# Altium schematic symbol library E-component.SchLib: 51 symbols
Pins are listed as number, name and electrical type; pins without a type are passive.

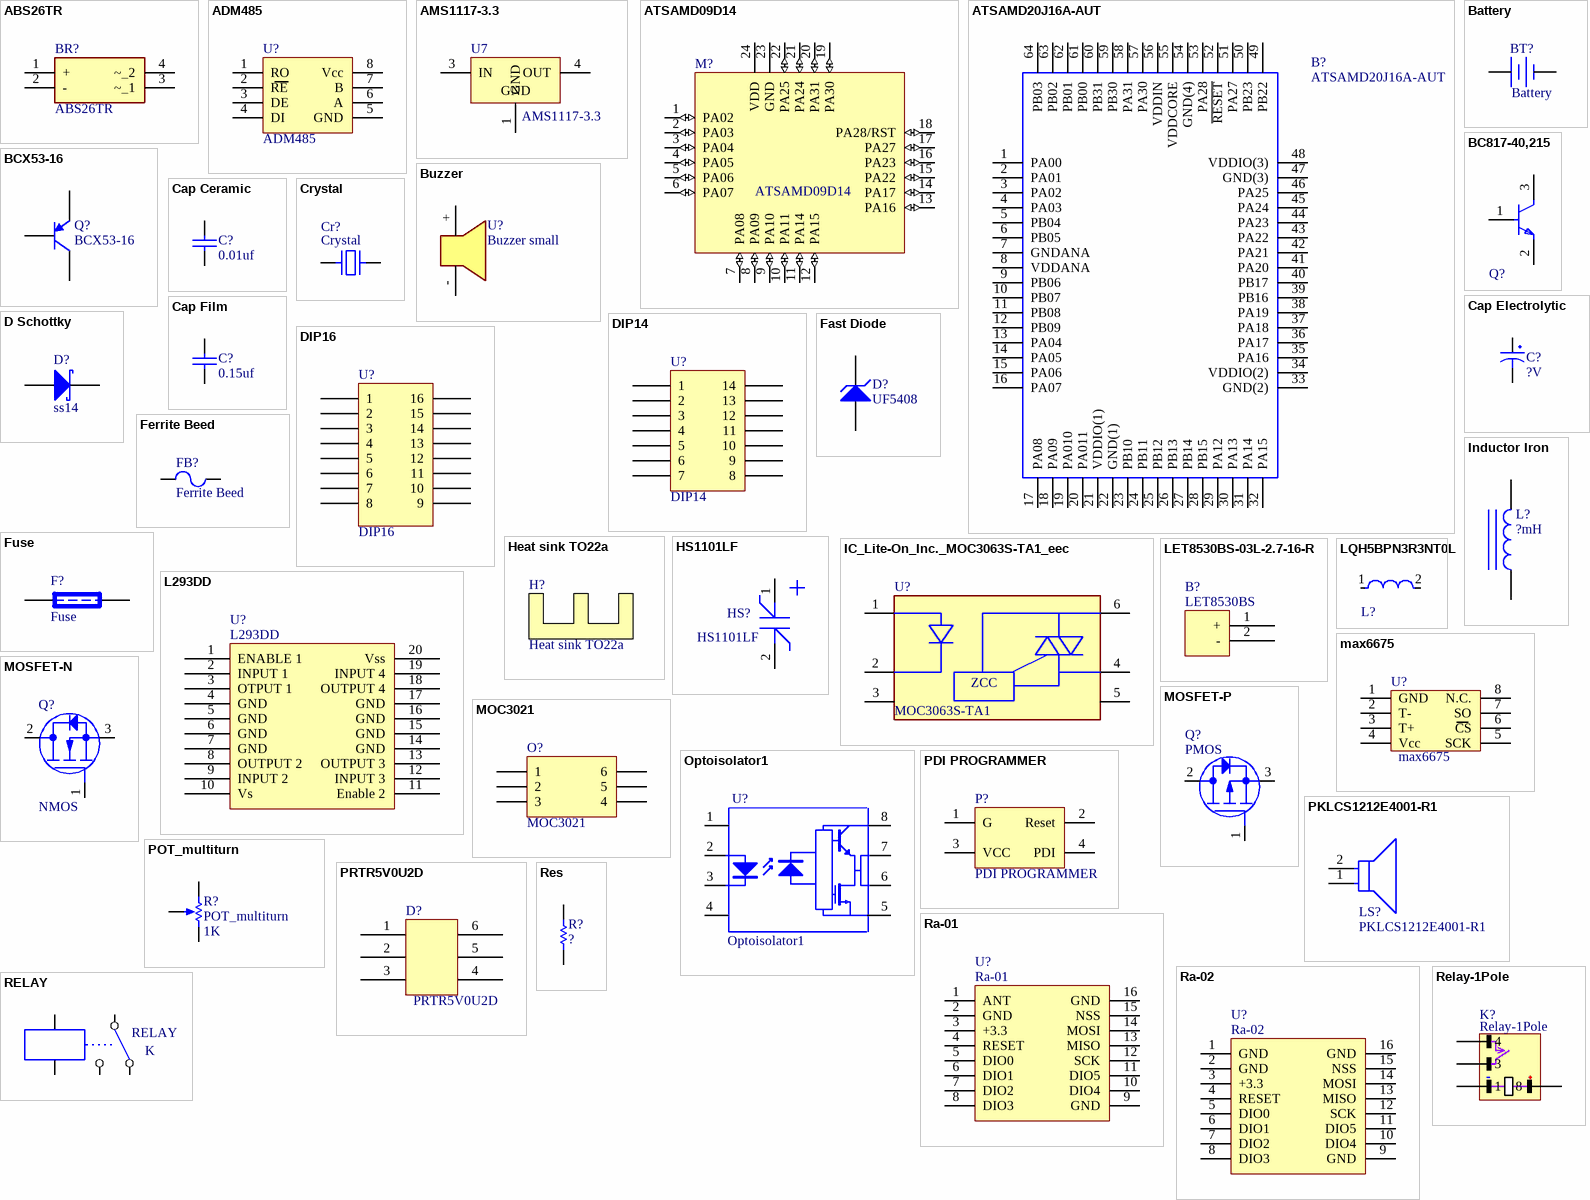
[diagram p0: symbols ABS26TR to Res]

## ABS26TR
designator BR?
Bridge Rectifier; Manufacturer_Name: SMC Diode Solutions; Datasheet Link: http://www.smc-diodes.com/propdf/ABS22%20THRU%20ABS210%20N1924%20REV.A.pdf; Height: 1.7mm; Manufacturer_Part_Number: ABS26TR; Arrow Part Number: ABS26TR
footprint TSOP400P640X150-4M (TSOP, 4-Leads, Body 5.05x4.40mm, Pitch 4.00mm, IPC Low Density)
footprint TSOP400P640X150-4N (TSOP, 4-Leads, Body 5.05x4.40mm, Pitch 4.00mm, IPC Medium Density)
pins: 1 +, 2 -, 3 ~_1, 4 ~_2

## ADM485
designator U?
pins: 1 RO, 2 RE, 3 DE, 4 DI, 5 GND, 6 A, 7 B, 8 Vcc

## AMS1117-3.3
designator U7
800mA Low-Dropout Linear Regulator, 3-pin TO-252; PartNumber: LM1117DT-3.3; Manufacturer: National Semiconductor; PackageTopMarking: NSUZXYTT*LM1117*DT-3.3; PowerWise: N; CompType: LDO IC; Published: 4-Dec-2008; DatasheetVersion: Apr-2006; PackageVersion: revD, Feb-2009; PackageReference: TD03B; Publisher: Altium Limited; PackageDescription: TO252, Molded, Jedec, 6.8 x 6.10 x 2.30mm Body, 3 Lead, 2.28mm Pitch, Surface Mount; Supplier 1: http://javanelec.com/; Supplier Part Number 1: 9486275; Supplier 2: Farnell; Supplier Part Number 2: 1523829; RoHS: N; PinCount: 3; Code_JEDEC: TO-252-AA; ComponentLink1Description: LM1117 Datasheet; ComponentLink1URL: http://www.national.com/ds/LM/LM1117.pdf; ComponentLink2Description: LM1117 Web Page; ComponentLink2URL: http://www.national.com/pf/LM/LM1117.html; ComponentLink3Description: TD03B Package Page; ComponentLink3URL: http://www.national.com/packaging/folders/td03b.html
footprint SOT223-TI (TI's Suggested Pad Layout)
pins: 1 GND (power), 3 IN (power), 4 OUT (power)

## ATSAMD09D14
designator M?
footprint QFN50P400X400X80_HS-25N (QFN, 24-Leads, Body 4.00x4.00mm, Pitch 0.50mm, Thermal Pad 2.60x2.60mm, IPC Medium Density)
pins: 1 PA02 (io), 2 PA03 (io), 3 PA04 (io), 4 PA05 (io), 5 PA06 (io), 6 PA07 (io), 7 PA08 (io), 8 PA09 (io), 9 PA10 (io), 10 PA11 (io), 11 PA14 (io), 12 PA15 (io), 13 PA16 (io), 14 PA17 (io), 15 PA22 (io), 16 PA23 (io), 17 PA27 (io), 18 PA28/RST (io), 19 PA30 (io), 20 PA31 (io), 21 PA24 (io), 22 PA25 (io), 23 GND (power), 24 VDD (power), 25 TPAD (power) hidden

## ATSAMD20J16A-AUT
designator B?
ARM Microcontrollers - MCU Cortex-M0+ 64KB FLASH 8KB SRAM; Manufacturer_Name: Microchip; Geometry.Height: 1.2mm; Supplier_Name: RS; RS Part Number: *; Manufacturer_Part_Number: ATSAMD20J16A-AUT; Allied_Number: *; Other Part Number: *; Datasheet Link: http://www.atmel.com/Images/Atmel-42129-SAM-D20_Datasheet.pdf; 3D Package: *
footprint QFP50P1200X1200X120-64N
pins: 1 PA00, 2 PA01, 3 PA02, 4 PA03, 5 PB04, 6 PB05, 7 GNDANA, 8 VDDANA, 9 PB06, 10 PB07, 11 PB08, 12 PB09, 13 PA04, 14 PA05, 15 PA06, 16 PA07, 17 PA08, 18 PA09, 19 PA010, 20 PA011, 21 VDDIO(1), 22 GND(1), 23 PB10, 24 PB11, 25 PB12, 26 PB13, 27 PB14, 28 PB15, 29 PA12, 30 PA13, 31 PA14, 32 PA15, 33 GND(2), 34 VDDIO(2), 35 PA16, 36 PA17, 37 PA18, 38 PA19, 39 PB16, 40 PB17, 41 PA20, 42 PA21, 43 PA22, 44 PA23, 45 PA24, 46 PA25, 47 GND(3), 48 VDDIO(3), 49 PB22, 50 PB23, 51 PA27, 52 ~{RESET}, 53 PA28, 54 GND(4), 55 VDDCORE, 56 VDDIN, 57 PA30, 58 PA31, 59 PB30, 60 PB31, 61 PB00, 62 PB01, 63 PB02, 64 PB03

## Battery
designator BT?
Multicell Battery; Published: 24-Mar-1999; LatestRevisionDate: 17-Jul-2002; LatestRevisionNote: Re-released for DXP Platform.; PackageReference: BAT-2; Publisher: Altium Limited; PackageDescription: Battery; 2 Leads
footprint BATTERY_3.6_NIMH
pins: 1 -, 2 +

## BC817-40,215
designator Q?  (value not drawn)
footprint Nexperia_SOT23_IPC_A
footprint Nexperia_SOT23_IPC_B
footprint Nexperia_SOT23_IPC_C
footprint Nexperia_SOT23_MFG
pins: 1 B, 2 E, 3 C

## BCX53-16
designator Q?
PNP Bipolar Transistor
footprint SOT89R-150P350X160-3N (SOT89, 3-Leads, Body 4.50x2.50mm, Pitch 1.50mm, Lead Span 3.5mm - Reverse Pinning, IPC Medium Density)
pins: 1 C, 2 B, 3 E

## Buzzer
designator U?, comment Buzzer small
5-12v small buzzer (12mm)
footprint Buzzer
pins: + 1 (power), - 2 (power)

## Cap Ceramic
designator C?, comment 0.01uf
Capacitor; Published: 8-Jun-2000; LatestRevisionDate: 17-Jul-2002; LatestRevisionNote: Re-released for DXP Platform.; PackageReference: RAD-0.3; Publisher: Altium Limited; PackageDescription: Radial Cap, Thru-Hole; 2 Leads; 0.3 in Pin Spacing; Value: 0.01uf
footprint Cap_ceramic
simulation model CAP (Capacitor)
signal-integrity model Cap
footprint CAP_0805
footprint CAP_0603 [IPC]
pins: 1, 2

## Cap Electrolytic
designator C?, comment ?V
Electrolytic Capacitor (Radial); voltage: Capacitor; 2 Leads; Value: ?V
simulation model CAP (Capacitor)
signal-integrity model Cap
footprint CAPPR7.5-18x35.5 (Capacitor, Electrolytic, Radial; Body 18 x 35.5 mm (Dia.xH typ); Pin Spacing 7.5 mm (typ))
footprint CAPPRS10-30x35 (Capacitor, Electrolytic, Radial, Snap-In Pins; Body 30 x 35 mm (Dia.xH typ); Pin Spacing 10 mm (typ))
footprint CAPPR5-8x11.5 (Capacitor, Electrolytic, Radial; Body 8 x 11.5 mm (Dia.xH typ); Pin Spacing 5 mm (typ))
footprint CAPPR5-5x11 (Capacitor, Electrolytic, Radial; Body 5 x 11 mm (Dia.xH typ); Pin Spacing 5 mm (typ))
footprint CAPPR8.5-SMD
footprint CAPAE8983X100N (Aluminum Electrolytic Capacitor, Body 8.30x8.30x10.00mm, IPC Medium Density)
footprint CAPAE109103X100N (Aluminum Electrolytic Capacitor, Body 10.30x10.30x10.00mm, IPC Medium Density)
footprint CAPAE7266X57N (Aluminum Electrolytic Capacitor, Body 6.60x6.60x5.70mm, IPC Medium Density)
pins: 1, 2

## Cap Film
designator C?, comment 0.15uf
Polypropylene Film Capacitor; Published: 8-Jun-2000; LatestRevisionDate: 17-Jul-2002; LatestRevisionNote: Re-released for DXP Platform.; PackageReference: RAD-0.3; Publisher: Altium Limited; PackageDescription: Radial Cap, Thru-Hole; 2 Leads; 0.3 in Pin Spacing; Value: 0.15uf
footprint WIMA MKS (Diode, Axial; Body 9.5 x 5.6 mm (LxDia. max), Lead Dia. 1.32 mm (max))
simulation model CAP (Capacitor)
signal-integrity model Cap
footprint WIMA MKS - mini (Diode, Axial; Body 9.5 x 5.6 mm (LxDia. max), Lead Dia. 1.32 mm (max))
pins: 1, 2

## Crystal
designator Cr?
footprint Crystal MC-405
pins: 1, 2

## D Schottky
designator D?, comment ss14
Schottky Diode; Published: 8-Jun-2000; LatestRevisionDate: 17-Jul-2002; LatestRevisionNote: Re-released for DXP Platform.; PackageReference: SMB; Publisher: Altium Limited; PackageDescription: DO-214-AA/SMB; 2 C-Bend Leads; Body 5.3 x 3.6 mm, inc. leads (LxW); Code_JEDEC: DO-214-AA
footprint SMB (DO-214-AA/SMB; 2 C-Bend Leads; Body 5.3 x 3.6 mm, inc. leads (LxW))
footprint SMA (SMA size diode)
footprint SODFL500X120-2N(DO-221AC ,SMA-FL) (SODFL, 2-Leads, Body 2.60x5.00mm, IPC Medium Density)
footprint SMC(DO-214AB)-Diodes (Diodes Incorporated's Suggested Pad Layout)
footprint LED 5mm
pins: 1 A, 2 K

## DIP14
designator U?
DIP 14
footprint DIP14
pins: 1, 2, 3, 4, 5, 6, 7, 8, 9, 10, 11, 12, 13, 14

## DIP16
designator U?
DIP 16
footprint DIP16 (DIP, 16-Leads, Row Spacing 7.62mm, Pitch 2.54mm, Body 19.6x6.3mm)
pins: 1, 2, 3, 4, 5, 6, 7, 8, 9, 10, 11, 12, 13, 14, 15, 16

## Fast Diode
designator D?, comment UF5408
Diode; Published: 8-Jun-2000; LatestRevisionDate: 17-Jul-2002; LatestRevisionNote: Re-released for DXP Platform.; PackageReference: DIODE-0.7; Publisher: Altium Limited; PackageDescription: Diode, Thru-Hole; 2 Leads; 0.7 in Pin Spacing
footprint DO-201AD (Diode, Axial; Body 9.5 x 5.6 mm (LxDia. max), Lead Dia. 1.32 mm (max))
simulation model ZENER (Diode)
signal-integrity model D Zener
pins: 1 A, 2 K

## Ferrite Beed
designator FB?
Code_IEC: 1005; Published: 8-Jun-2000; LatestRevisionDate: 17-Jul-2002; LatestRevisionNote: Re-released for DXP Platform.; PackageReference: 0402-A; Publisher: Altium Limited; Code_JEITA: 0402
footprint AXIAL-0.3 (Axial Device, Thru-Hole; 2 Leads; 0.3 in Pin Spacing)
footprint 2012[0805] (Chip Resistor; Body 2.0 x 1.3 mm (LxW typ))
footprint Ferrite_0603 [IPC] ([standards IEC 61188-5-x & IPC-7351] [REFLOW SOLDERING])
pins: 1, 2

## Fuse
designator F?
Published: 8-Jun-2000; LatestRevisionDate: 17-Jul-2002; LatestRevisionNote: Re-released for DXP Platform.; PackageReference: PIN-W2/E2.8; Publisher: Altium Limited
footprint FUSE
footprint FUSE - Plastic package
pins: 1, 2

## Heat sink TO22a
designator H?
Heat sink for TO22
footprint My_Heat_sink_TO22a

## HS1101LF
designator HS?
footprint HS1101LF (Relative Humidity Sensor)
pins: 1, 2

## IC_Lite-On_Inc._MOC3063S-TA1_eec
designator U?  Part Number: MOC3063S-TA1
IC OPTOISOLATOR 5KV TRIAC 6SMD; Manufacturer: Lite-On Inc.; Mfg Package Ident: SMD6; helpURL: https://upverter.com/upn/revision/a56e6b8ee8ee0b41/; ComponentLink2Description: Datasheet; Temperature: -40°C to +110°C; Package: SMD6; Supplier 2: Mouser; Supplier 1: Digi-Key; ComponentLink1URL: https://upverter.com/upn/revision/a56e6b8ee8ee0b41/; Supplier Part Number 2: 859-MOC3063S-TA1; Supplier Part Number 1: 160-1723-1-ND; ComponentLink1Description: Upverter; ComponentLink2URL: http://optoelectronics.liteon.com/upload/download/DS70-2001-026/MOC306X%20series%20201606.pdf; RoHS: TRUE; Mouser Part Number: 859-MOC3063S-TA1; Temperature Range High: +110°C; Digikey Description: IC OPTOISOLATOR 5KV TRIAC 6SMD; Digikey Part Number: 160-1723-1-ND; Lead Free: yes; Temperature Range Low: -40°C
footprint Lite-On_Inc._SMD6_0
pins: 1 A, 2 C, 3 NC, 4 1 MAIN TERMINAL, 5 SUBSTRATE, 6 2 MAIN TERMINAL
text: ZCC

## Inductor Iron
designator L?, comment ?mH
Magnetic-Core Inductor; Published: 24-Mar-1999; LatestRevisionDate: 17-Jul-2002; LatestRevisionNote: Re-released for DXP Platform.; PackageReference: AXIAL-0.9; Publisher: Altium Limited; PackageDescription: Axial Device, Thru-Hole; 2 Leads; 0.9 in Pin Spacing; Value: ?mH
footprint Toroidal coil
simulation model INDUCTOR (Inductor)
signal-integrity model Inductor Iron
footprint INDUCTOR_SMD
pins: 1, 2

## L293DD
designator U?
footprint L293DD-SOP127P1030X265-20N (SOP, 20-Leads, Body 12.80x7.50mm, Pitch 1.27mm, IPC Medium Density)
pins: 1 ENABLE 1, 2 INPUT 1, 3 OTPUT 1, 4 GND, 5 GND, 6 GND, 7 GND, 8 OUTPUT 2, 9 INPUT 2, 10 Vs, 11 Enable 2, 12 INPUT 3, 13 OUTPUT 3, 14 GND, 15 GND, 16 GND, 17 GND, 18 OUTPUT 4, 19 INPUT 4, 20 Vss

## LET8530BS-03L-2.7-16-R
designator B?, comment LET8530BS
footprint LET8530BS
pins: 1 +, 2 -

## LQH5BPN3R3NT0L
designator L?  (value not drawn)
Inductor Power Chip Shielded Wirewound 3.3uH 30% 100KHz Ferrite 2.3A 52.8mOhm DCR 2020 T/R
footprint Murata_LQH5BPB_T0_MFG
pins: 1, 2

## max6675
designator U?
footprint SOIC8-maxim
pins: 1 GND, 2 T-, 3 T+, 4 Vcc, 5 SCK, 6 CS, 7 SO, 8 N.C.

## MOC3021
designator O?
footprint DIP 6
pins: 1, 2, 3, 4, 5, 6

## MOSFET-N
designator Q?, comment NMOS
footprint SOT-23_Atmel (SOT-23 Package)
footprint SOT-23_semtech (SOT23, 3-Leads, Body 2.92x2.37mm, Pitch 0.95mm, IPC Medium Density)
footprint DPAK3-ON SEMICONDUCTOR (D-PAK, 3-Pads, Body 6.21x6.73mm (max), IPC Medium Density)
pins: 1 G, 2 D, 3 S

## MOSFET-P
designator Q?, comment PMOS
footprint SOT-23_Atmel (SOT-23 Package)
footprint SOT-23_semtech (SOT23, 3-Leads, Body 2.92x2.37mm, Pitch 0.95mm, IPC Medium Density)
footprint DPAK3-ON SEMICONDUCTOR (D-PAK, 3-Pads, Body 6.21x6.73mm (max), IPC Medium Density)
pins: 1 G, 2 D, 3 S

## Optoisolator1
designator U?
4-Pin Phototransistor Optocoupler; Published: 24-Mar-1999; LatestRevisionDate: 04-Mar-2005; LatestRevisionNote: Sch pins 3 & 4 Swapped.; DatasheetVersion: Nov-2003; PackageReference: DIP-4; Publisher: Altium Limited
footprint DIP-8 (DIP; 8 Leads; Row Spacing 7.62 mm; Pitch 2.54 mm)
pins: 1 1- NC, 2 2-ANODE "Anode", 3 3-CATHODE "Cathode", 4, 5 5-VEE, 6 6-VO "Emitter", 7 7-VO "Collector", 8 8-VCC

## PDI PROGRAMMER
designator P?  (no BOM)
Header, 3-Pin, Dual row; LatestRevisionDate: 17-Jul-2002; LatestRevisionNote: Re-released for DXP Platform.; Publisher: Altium Limited
footprint PDI
pins: 1 G, 2 Reset, 3 VCC, 4 PDI

## PKLCS1212E4001-R1
designator LS?
footprint Murata_PKLCS1212E4001-R1_0
pins: 1, 2

## POT_multiturn
designator R?  value 1K
Potentiometer; Sim Note: Enter the Resistance value and the set point into parameter fields.; Set Position: 0.5; Published: 8-Jun-2000; LatestRevisionDate: 17-Jul-2002; LatestRevisionNote: Re-released for DXP Platform.; PackageReference: VR5; Publisher: Altium Limited; PackageDescription: Variable Resistor, Thru-Hole; 3 Leads
footprint Pot-multirurn (multirurn)
pins: 1 TOP, 2 TAP, 3 BOT
1 alternate drawing of the same symbol

## PRTR5V0U2D
designator D?, comment value PRTR5V0U2D  (hidden comment: PRTR5V0U2X)
Double rail-to-rail USB ESD protection diode; OrcadPartType: Integrated Circuits&Special function&Protection; Manufacturer: Philips; AN: A06-0236; TemperatureRange: -40 to +85 C; PartType: Buy; Height: 1,10000002384186; MPN: PRTR5V0U2X
footprint SOT457_N (SOT23, 6-Leads, Body 2.9x1.5mm, Pitch 0.95mm, Lead Span 2.8mm, IPC Medium Density)
pins: 1 I/O 1, 2 GND, 3 I/O2, 4 I/O2, 5 VCC, 6 I/O1

## Ra-01
designator U?
footprint RA-02
pins: 1 ANT, 2 GND, 3 +3.3, 4 RESET, 5 DIO0, 6 DIO1, 7 DIO2, 8 DIO3, 9 GND, 10 DIO4, 11 DIO5, 12 SCK, 13 MISO, 14 MOSI, 15 NSS, 16 GND

## Ra-02
designator U?
footprint RA-02
pins: 1 GND, 2 GND, 3 +3.3, 4 RESET, 5 DIO0, 6 DIO1, 7 DIO2, 8 DIO3, 9 GND, 10 DIO4, 11 DIO5, 12 SCK, 13 MISO, 14 MOSI, 15 NSS, 16 GND

## RELAY
designator K
current: ?
footprint REL-LSZ
pins: 1, 2, COM, NC, NO
2 alternate drawings of the same symbol

## Relay-1Pole
designator K?
footprint G6C-117P -FD-US (OMRON Power Relay)
pins: 1, 3, 4, 8

## Res
designator R?, comment ?
Resistor; Published: 8-Jun-2000; LatestRevisionDate: 17-Jul-2002; LatestRevisionNote: Re-released for DXP Platform.; PackageReference: AXIAL-0.3; Publisher: Altium Limited; PackageDescription: Axial Device, Thru-Hole; 2 Leads; 0.3 in Pin Spacing; Value: ?
footprint AXIAL-0.8 (Axial Device, Thru-Hole; 2 Leads; 0.8 in Pin Spacing)
simulation model RESISTOR (Resistor)
signal-integrity model Res
footprint RES_0805
footprint RES_1206
footprint RES_0603 [IPC] ([standards IEC 61188-5-x & IPC-7351] [REFLOW SOLDERING])
footprint RES_0402
pins: 1, 2

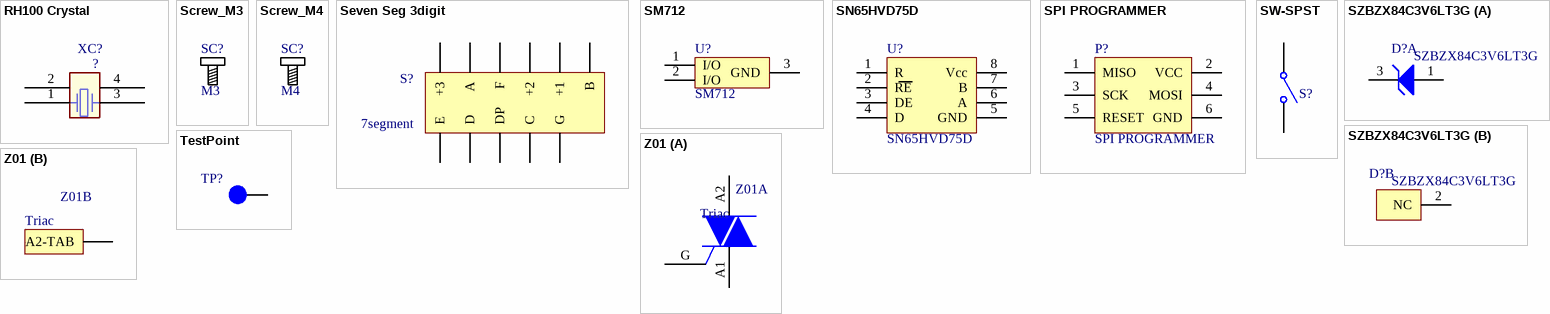
[diagram p1: symbols RH100 Crystal to Z01]

## RH100 Crystal
designator XC?, comment ?
RALTRON SERIES RH100 SURFACE MOUNT MICROPROCESSOR CRYSTAL; Part Number: Add part number; PPM: ?; Value: ?
footprint RH100 (SURFACE MOUNT MICROPROCESSOR CRYSTAL(RALTRON))
pins: 1, 2, 3, 4

## Screw_M3
designator SC?, comment M3
Screw
footprint SCREW_M3

## Screw_M4
designator SC?, comment M4
Screw
footprint SCREW_M4

## Seven Seg 3digit
designator S?, comment 7segment
footprint SEVEN_SEGMENT_3 (3DIGIT_common felan)
footprint SEVEN_SEGMENT_3 - madule (3DIGIT_common felan)
pins: 1 E, 2 D, 3 DP, 4 C, 5 G, 7 B, 8 +1, 9 +2, 10 F, 11 A, 12 +3

## SM712
designator U?
footprint SOT-23_semtech (SOT23, 3-Leads, Body 2.92x2.37mm, Pitch 0.95mm, IPC Medium Density)
pins: 1 I/O, 2 I/O, 3 GND

## SN65HVD75D
designator U?
footprint SOIC8-TI
pins: 1 R, 2 RE, 3 DE, 4 D, 5 GND, 6 A, 7 B, 8 Vcc

## SPI PROGRAMMER
designator P?  (no BOM)
Header, 3-Pin, Dual row; LatestRevisionDate: 17-Jul-2002; LatestRevisionNote: Re-released for DXP Platform.; Publisher: Altium Limited
footprint SPI PROGRAMMER
pins: 1 MISO, 2 VCC, 3 SCK, 4 MOSI, 5 RESET, 6 GND

## SW-SPST
designator S?  (value not drawn)
Single-Pole, Single-Throw Switch; Published: 24-Mar-1999; Revision: July-2002: Re-released for DXP Platform.; Publisher: Altium Limited
footprint KEY
footprint DIP-1 (DIP; 8 Leads; Row Spacing 7.62 mm; Pitch 2.54 mm)
footprint pushbutton_smd
footprint PUSH-BUT-SMD
pins: 1 COMMON, 2 NO

## SZBZX84C3V6LT3G
designator D?
Zener Voltage Regulator, 225 mW, 3-Pin SOT-23, Pb-Free, Tape and Reel; Manufacturer: On Semiconductor; ComponentLink1Description: Manufacturer URL; ComponentLink2Description: Datasheet; ComponentLink3Description: Package Specification; Mounting Technology: Surface Mount; ComponentLink3URL: http://www.onsemi.cn/pub_link/Collateral/318-08.PDF; DatasheetVersion: Rev. 17; ComponentLink1URL: http://www.onsemi.com/; Packing: Tape and Reel; PackageVersion: Rev. AP, 11/2009; PartNumber: SZBZX84C3V6LT3G; PackageDescription: 3-Pin Small Outline Transistor, Body 2.92 x 1.3 mm, Pitch 0.95 mm; ComponentLink2URL: http://www.onsemi.com/pub_link/Collateral/BZX84C2V4LT1-D.PDF; RoHS: Pb-Free; PackageReference: SOT-23-3-318-08
footprint ONSC-SOT-23-3-318-08_V
part A pins: 1 A, 3 K
part B pins: 2 NC

## TestPoint
designator TP?  (value not drawn)
footprint Test Point SMD
footprint Test Point PTH0.6 (Test Point SMD)
pins: 1

## Z01
designator Z01, comment Triac
footprint SOT230P700X180-4N-STM-Z01 (SOT223, 4-Leads, Body 6.50x7.00mm (avg), Pitch 2.30mm, IPC Medium Density)
part A pins: A1, A2, G
part B pins: A2-TAB